# Altium schematic symbol library LM2902YDT.SchLib: 1 symbol
Pins are listed as number, name and electrical type; pins without a type are passive.

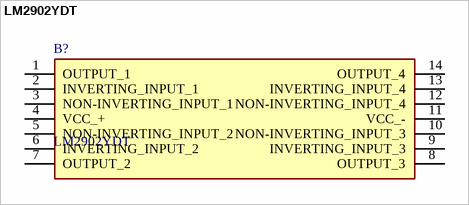
[diagram p0: symbol LM2902YDT]

## LM2902YDT
designator B?
LM2902YDT, Quad Operational Amplifier 1.3MHz 5 to 28V, 14-Pin SO; Manufacturer_Name: STMicroelectronics; Geometry.Height: 1.75mm; Manufacturer_Part_Number: LM2902YDT; Mouser Part Number: 511-LM2902YDT; Mouser Price/Stock: https://www.mouser.co.uk/ProductDetail/STMicroelectronics/LM2902YDT?qs=5J552fbOmorZuJVYgEuIbQ%3D%3D; Arrow Part Number: LM2902YDT; Arrow Price/Stock: https://www.arrow.com/en/products/lm2902ydt/stmicroelectronics?region=nac; Datasheet Link: http://www.st.com/st-web-ui/static/active/en/resource/technical/document/datasheet/CD00000533.pdf
footprint SOIC127P600X175-14N
pins: 1 OUTPUT_1, 2 INVERTING_INPUT_1, 3 NON-INVERTING_INPUT_1, 4 VCC_+, 5 NON-INVERTING_INPUT_2, 6 INVERTING_INPUT_2, 7 OUTPUT_2, 8 OUTPUT_3, 9 INVERTING_INPUT_3, 10 NON-INVERTING_INPUT_3, 11 VCC_-, 12 NON-INVERTING_INPUT_4, 13 INVERTING_INPUT_4, 14 OUTPUT_4